# Altium schematic symbol library Schlib_Right.SchLib: 20 symbols
Pins are listed as number, name and electrical type; pins without a type are passive.

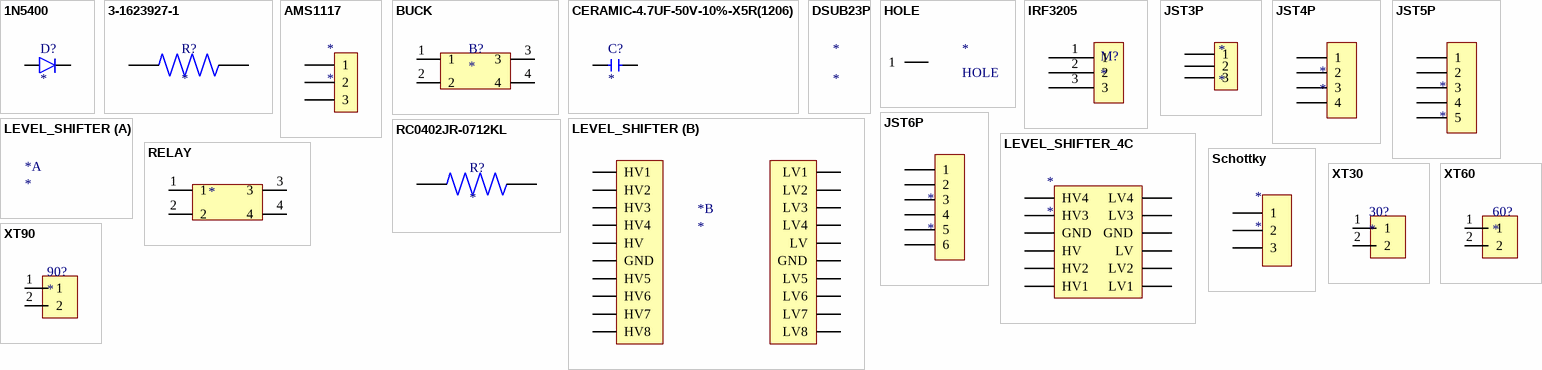
[diagram p0: symbols 1N5400 to XT90]

## 1N5400
designator D?
Diode Standard 50 V 3A Through Hole DO-201AD; MF: Diodes Inc.; MP: 1N5400-T; SnapEDA_Link: https://www.snapeda.com/parts/1N5400-T/Diodes+Inc./view-part/?ref=snap; Package: DO-201 Diodes Inc.; Value: *; Check_prices: https://www.snapeda.com/parts/1N5400-T/Diodes+Inc./view-part/?ref=eda
footprint DO201-15
pins: A, C

## 3-1623927-1
designator R?
1 MOhms Â±5% 0.25W, 1/4W Through Hole Resistor Axial - Carbon Film; MF: TE Connectivity; MP: 3-1623927-1; SnapEDA_Link: https://www.snapeda.com/parts/3-1623927-1/TE+Connectivity/view-part/?ref=snap; Package: None; Value: *; Check_prices: https://www.snapeda.com/parts/3-1623927-1/TE+Connectivity/view-part/?ref=eda
footprint RESAD700W45L350D185
pins: 1, 2

## AMS1117
designator *
footprint AMS1117
pins: 1, 2, 3

## BUCK
designator B?
footprint BUCKY
pins: 1 "Cathode", 2 "Cathode", 3 "Cathode", 4 "Cathode"

## CERAMIC-4.7UF-50V-10%-X5R(1206)
designator C?
4.7 ÂµF Â±10% 50V Ceramic Capacitor X5R 1206 (3216 Metric); MF: Yageo; MP: CC1206KKX5R9BB475; SnapEDA_Link: https://www.snapeda.com/parts/CC1206KKX5R9BB475/Yageo/view-part/?ref=snap; Package: SMD-2 Yageo; Value: *; Check_prices: https://www.snapeda.com/parts/CC1206KKX5R9BB475/Yageo/view-part/?ref=eda
footprint C1206
pins: 1, 2

## DSUB23P
designator *

## HOLE
designator *
footprint HOLE
pins: 1 "Cathode"

## IRF3205
designator M?
footprint IRF3205
pins: 1, 2, 3

## JST3P
designator *
footprint JST3P
pins: 1, 2, 3

## JST4P
designator *
footprint JST4P
pins: 1, 2, 3, 4

## JST5P
designator *
footprint JST5P
pins: 1, 2, 3, 4, 5

## JST6P
designator *
footprint JST6P
pins: 1, 2, 3, 4, 5, 6

## LEVEL_SHIFTER
designator *
footprint LEVEL_SHIFTER
part B pins: GND "Cathode", GND "Cathode", HV "Cathode", HV1 "Cathode", HV2 "Cathode", HV3 "Cathode", HV4 "Cathode", HV5 "Cathode", HV6 "Cathode", HV7 "Cathode", HV8 "Cathode", LV "Cathode", LV1 "Cathode", LV2 "Cathode", LV3 "Cathode", LV4 "Cathode", LV5 "Cathode", LV6 "Cathode", LV7 "Cathode", LV8 "Cathode"

## LEVEL_SHIFTER_4C
designator *
footprint LVLSHIF4C
pins: GND, GND, HV, HV1, HV2, HV3, HV4, HV4 LV2, LV, LV1, LV3, LV4

## RC0402JR-0712KL
designator R?
12 kOhms Â±5% 0.063W, 1/16W Chip Resistor 0402 (1005 Metric) Moisture Resistant Thick Film; MF: Yageo; MP: RC0402JR-0712KL; SnapEDA_Link: https://www.snapeda.com/parts/RC0402JR-0712KL/Yageo/view-part/?ref=snap; Package: 1005 Panasonic Electronic Components; Value: *; Check_prices: https://www.snapeda.com/parts/RC0402JR-0712KL/Yageo/view-part/?ref=eda
footprint RESC1005X40N
pins: 1, 2

## RELAY
designator *
Power Relay SPDT 30A 24V; Manufacturer: TE Connectivity; Manufacturer Part Number: V23134A4064X551-EV-CBOX; Supplier 1: Digikey; RoHS: No; Stock 1: 33; Pricing 1: 1=21.98, 10=19.576, 25=18.6936, 50=18.0516, 110=17.34791, 330=16.41191, 550=15.99385 (USD); Supplier Part Number 1: 41-V23134A4064X551-EV-CBOX-ND
footprint Relay
pins: 1 "Cathode", 2 "Cathode", 3 "Cathode", 4 "Cathode"

## Schottky
designator *
footprint schottky diode
pins: 1, 2, 3

## XT30
designator 30?
footprint XT30_FEMALE
pins: 1 "Cathode", 2 "Cathode"

## XT60
designator 60?
footprint XT60_FEMALE
pins: 1 "Cathode", 2 "Cathode"

## XT90
designator 90?
footprint XT90_FEMALE
pins: 1 "Cathode", 2 "Cathode"